# EAGLE library part CUBIEBOARD (library debauer_modules)
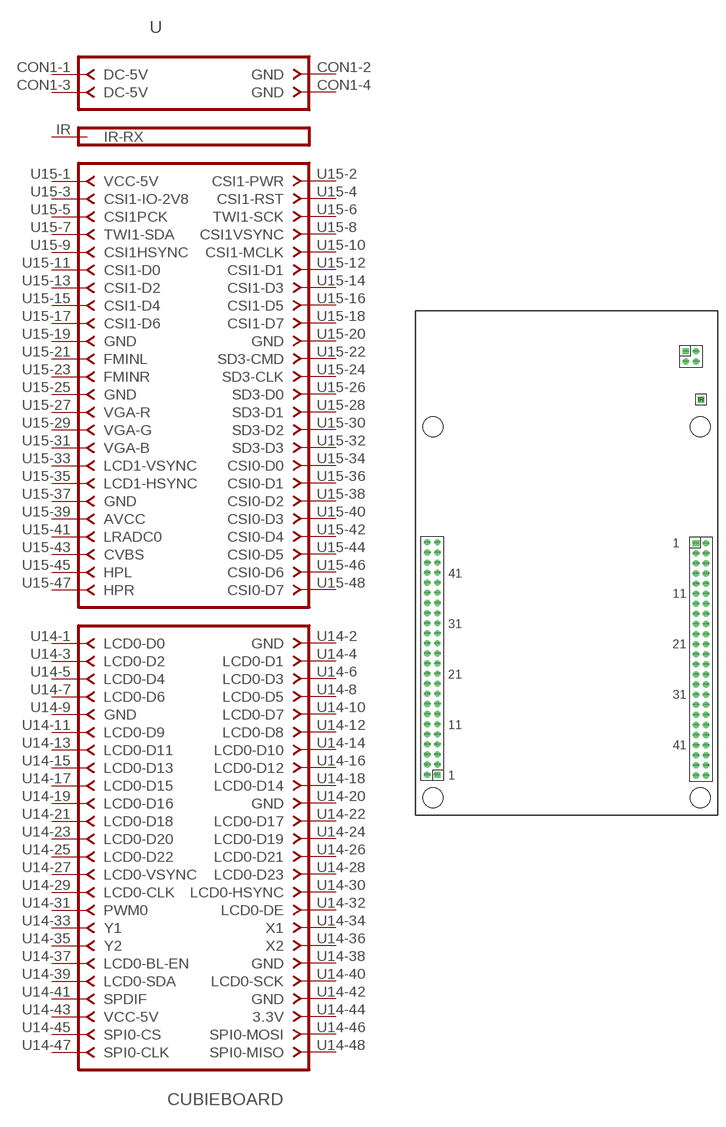
[diagram p7: symbol with the pads of CUBIEBOARD; footprint CUBIEBOARD]

Designator prefix -

## CUBIEBOARD  [CUBIEBOARD]
CON1-1  DC-5V  pas
CON1-2  GND  pas
CON1-3  DC-5V  pas
CON1-4  GND  pas
IR  IR-RX  pas
U14-1  LCD0-D0  pas
U14-2  GND  pas
U14-3  LCD0-D2  pas
U14-4  LCD0-D1  pas
U14-5  LCD0-D4  pas
U14-6  LCD0-D3  pas
U14-7  LCD0-D6  pas
U14-8  LCD0-D5  pas
U14-9  GND  pas
U14-10  LCD0-D7  pas
U14-11  LCD0-D9  pas
U14-12  LCD0-D8  pas
U14-13  LCD0-D11  pas
U14-14  LCD0-D10  pas
U14-15  LCD0-D13  pas
U14-16  LCD0-D12  pas
U14-17  LCD0-D15  pas
U14-18  LCD0-D14  pas
U14-19  LCD0-D16  pas
U14-20  GND  pas
U14-21  LCD0-D18  pas
U14-22  LCD0-D17  pas
U14-23  LCD0-D20  pas
U14-24  LCD0-D19  pas
U14-25  LCD0-D22  pas
U14-26  LCD0-D21  pas
U14-27  LCD0-VSYNC  pas
U14-28  LCD0-D23  pas
U14-29  LCD0-CLK  pas
U14-30  LCD0-HSYNC  pas
U14-31  PWM0  pas
U14-32  LCD0-DE  pas
U14-33  Y1  pas
U14-34  X1  pas
U14-35  Y2  pas
U14-36  X2  pas
U14-37  LCD0-BL-EN  pas
U14-38  GND  pas
U14-39  LCD0-SDA  pas
U14-40  LCD0-SCK  pas
U14-41  SPDIF  pas
U14-42  GND  pas
U14-43  VCC-5V  pas
U14-44  3.3V  pas
U14-45  SPI0-CS  pas
U14-46  SPI0-MOSI  pas
U14-47  SPI0-CLK  pas
U14-48  SPI0-MISO  pas
U15-1  VCC-5V  pas
U15-2  CSI1-PWR  pas
U15-3  CSI1-IO-2V8  pas
U15-4  CSI1-RST  pas
U15-5  CSI1PCK  pas
U15-6  TWI1-SCK  pas
U15-7  TWI1-SDA  pas
U15-8  CSI1VSYNC  pas
U15-9  CSI1HSYNC  pas
U15-10  CSI1-MCLK  pas
U15-11  CSI1-D0  pas
U15-12  CSI1-D1  pas
U15-13  CSI1-D2  pas
U15-14  CSI1-D3  pas
U15-15  CSI1-D4  pas
U15-16  CSI1-D5  pas
U15-17  CSI1-D6  pas
U15-18  CSI1-D7  pas
U15-19  GND  pas
U15-20  GND  pas
U15-21  FMINL  pas
U15-22  SD3-CMD  pas
U15-23  FMINR  pas
U15-24  SD3-CLK  pas
U15-25  GND  pas
U15-26  SD3-D0  pas
U15-27  VGA-R  pas
U15-28  SD3-D1  pas
U15-29  VGA-G  pas
U15-30  SD3-D2  pas
U15-31  VGA-B  pas
U15-32  SD3-D3  pas
U15-33  LCD1-VSYNC  pas
U15-34  CSI0-D0  pas
U15-35  LCD1-HSYNC  pas
U15-36  CSI0-D1  pas
U15-37  GND  pas
U15-38  CSI0-D2  pas
U15-39  AVCC  pas
U15-40  CSI0-D3  pas
U15-41  LRADC0  pas
U15-42  CSI0-D4  pas
U15-43  CVBS  pas
U15-44  CSI0-D5  pas
U15-45  HPL  pas
U15-46  CSI0-D6  pas
U15-47  HPR  pas
U15-48  CSI0-D7  pas

## Footprint CUBIEBOARD (pad centres in mm)
drill 0.711 square: CON1-1 24.63,47.92; IR 27.646,38.316; U14-1 26.63,9.92; U15-1 -24.63,-35.92
drill 0.711: CON1-2 26.63,47.92; CON1-3 24.63,45.92; CON1-4 26.63,45.92; U14-2 28.63,9.92; U14-3 26.63,7.92; U14-4 28.63,7.92; U14-5 26.63,5.92; U14-6 28.63,5.92; U14-7 26.63,3.92; U14-8 28.63,3.92; U14-9 26.63,1.92; U14-10 28.63,1.92; U14-11 26.63,-0.08; U14-12 28.63,-0.08; U14-13 26.63,-2.08; U14-14 28.63,-2.08; U14-15 26.63,-4.08; U14-16 28.63,-4.08; U14-17 26.63,-6.08; U14-18 28.63,-6.08; U14-19 26.63,-8.08; U14-20 28.63,-8.08; U14-21 26.63,-10.08; U14-22 28.63,-10.08; U14-23 26.63,-12.08; U14-24 28.63,-12.08; U14-25 26.63,-14.08; U14-26 28.63,-14.08; U14-27 26.63,-16.08; U14-28 28.63,-16.08; U14-29 26.63,-18.08; U14-30 28.63,-18.08; U14-31 26.63,-20.08; U14-32 28.63,-20.08; U14-33 26.63,-22.08; U14-34 28.63,-22.08; U14-35 26.63,-24.08; U14-36 28.63,-24.08; U14-37 26.63,-26.08; U14-38 28.63,-26.08; U14-39 26.63,-28.08; U14-40 28.63,-28.08; U14-41 26.63,-30.08; U14-42 28.63,-30.08; U14-43 26.63,-32.08; U14-44 28.63,-32.08; U14-45 26.63,-34.08; U14-46 28.63,-34.08; U14-47 26.63,-36.08; U14-48 28.63,-36.08; U15-2 -26.63,-35.92; U15-3 -24.63,-33.92; U15-4 -26.63,-33.92; U15-5 -24.63,-31.92; U15-6 -26.63,-31.92; U15-7 -24.63,-29.92; U15-8 -26.63,-29.92; U15-9 -24.63,-27.92; U15-10 -26.63,-27.92; U15-11 -24.63,-25.92; U15-12 -26.63,-25.92; U15-13 -24.63,-23.92; U15-14 -26.63,-23.92; U15-15 -24.63,-21.92; U15-16 -26.63,-21.92; U15-17 -24.63,-19.92; U15-18 -26.63,-19.92; U15-19 -24.63,-17.92; U15-20 -26.63,-17.92; U15-21 -24.63,-15.92; U15-22 -26.63,-15.92; U15-23 -24.63,-13.92; U15-24 -26.63,-13.92; U15-25 -24.63,-11.92; U15-26 -26.63,-11.92; U15-27 -24.63,-9.92; U15-28 -26.63,-9.92; U15-29 -24.63,-7.92; U15-30 -26.63,-7.92; U15-31 -24.63,-5.92; U15-32 -26.63,-5.92; U15-33 -24.63,-3.92; U15-34 -26.63,-3.92; U15-35 -24.63,-1.92; U15-36 -26.63,-1.92; U15-37 -24.63,0.08; U15-38 -26.63,0.08; U15-39 -24.63,2.08; U15-40 -26.63,2.08; U15-41 -24.63,4.08; U15-42 -26.63,4.08; U15-43 -24.63,6.08; U15-44 -26.63,6.08; U15-45 -24.63,8.08; U15-46 -26.63,8.08; U15-47 -24.63,10.08; U15-48 -26.63,10.08
hole 4 at -25.5,-40.5
hole 4 at 27.5,-40.5
hole 4 at -25.5,33
hole 4 at 27.5,33